# EAGLE library part DIGISPARK (library digispark)
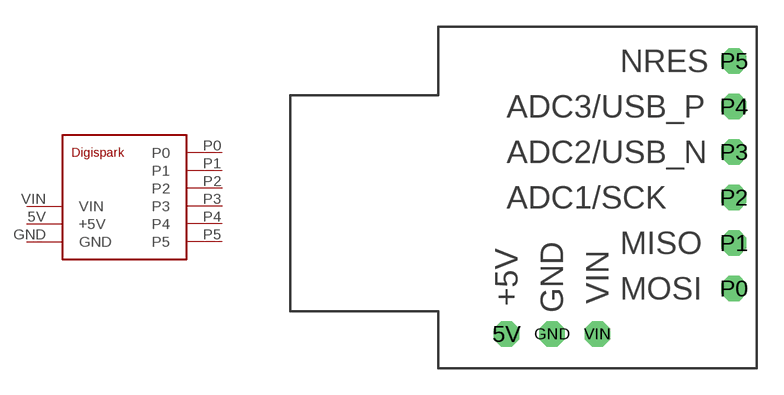
[diagram p0: symbol with the pads of DIGISPARK_78M05; footprint DIGISPARK_78M05]

Designator prefix -

## DIGISPARK  [DIGISPARK_78M05]
5V  +5V
GND  GND
P0  P0
P1  P1
P2  P2
P3  P3
P4  P4
P5  P5
VIN  VIN

## Footprint DIGISPARK_78M05 (pad centres in mm)
drill 0.9 octagon: 5V 2.54,0; GND 5.08,0; P0 15.24,2.54; P1 15.24,5.08; P2 15.24,7.62; P3 15.24,10.16; P4 15.24,12.7; P5 15.24,15.24; VIN 7.62,0